# Altium integrated library NSC MiscPower.IntLib: 742 symbols (part 18 of 19)
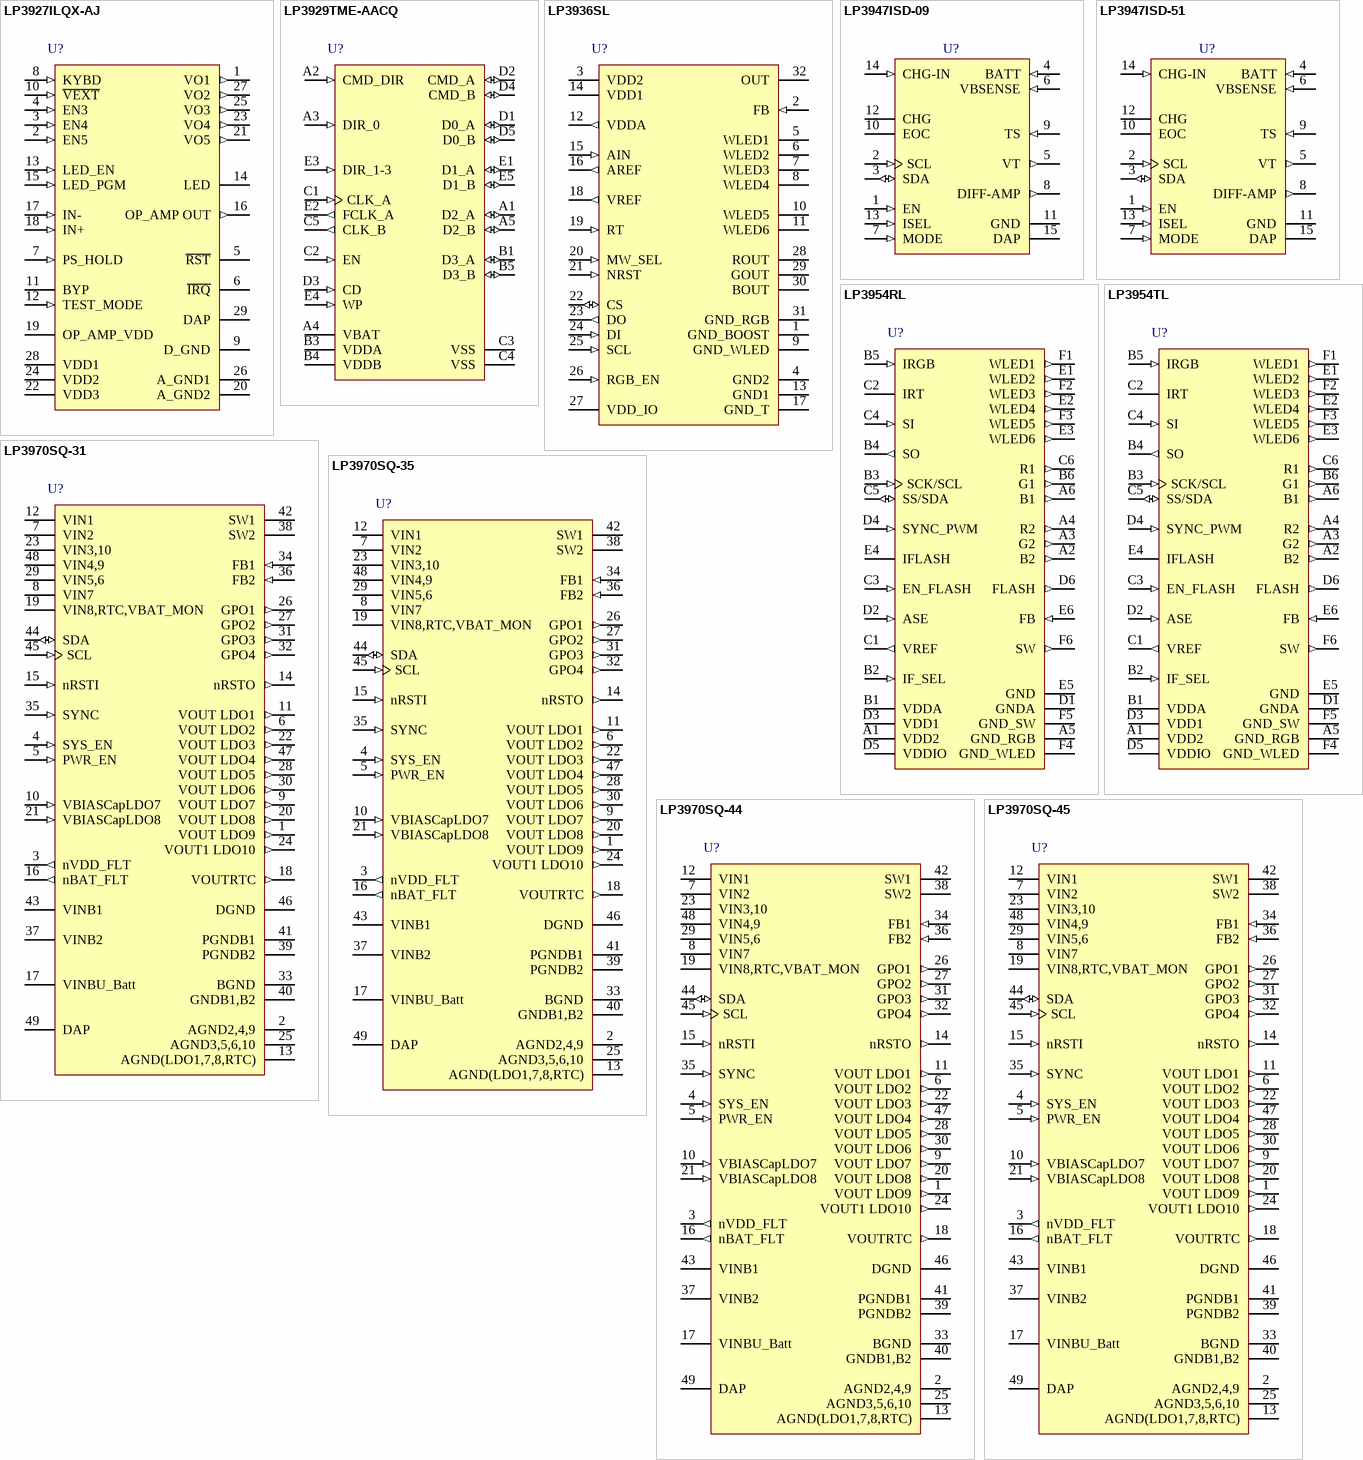
[diagram p42: symbols LP3927ILQX-AJ to LP3970SQ-45]

## LP3947ISD-09
designator U?
USB/AC Adaptor, Single Cell Li-Ion Battery Charger IC; PartNumber: LP3947ISD-09; Manufacturer: National Semiconductor; CompType: MiscPower; PackageTopMarking: NS*UZXYTT*L00061B; PowerWise: Y; Published: 4-Dec-2008; DatasheetVersion: Jul-2006; PackageVersion: revA, Jul-2004; PackageReference: SDA14B; Publisher: Altium Limited; PackageDescription: LLP, Plastic, Dual, 4 x 4 x 0.8mm Body, 14 Lead, 0.5mm Pitch, No Pullback; RoHS: Y; PinCount: 14; DigiKeyPartNumber: LP3947ISD-09CT-ND; ComponentLink1Description: LP3947 Datasheet; ComponentLink1URL: http://www.national.com/ds/LP/LP3947.pdf; ComponentLink2Description: LP3947 Web Page; ComponentLink2URL: http://www.national.com/pf/LP/LP3947.html; ComponentLink3Description: SDA14B Package Page; ComponentLink3URL: http://www.national.com/packaging/folders/sda14b.html
footprint SDA14B (SON, 14-Leads, Body 4x4mm, Pitch 0.5mm, NSC Recommended)
pins: 1 EN (in), 2 SCL (in), 3 SDA (io), 4 BATT (in), 5 VT (out), 6 VBSENSE (in), 7 MODE (in), 8 DIFF-AMP (out), 9 TS (in), 10 EOC (oc), 11 GND (power), 12 CHG (oc), 13 ISEL (in), 14 CHG-IN (in), 15 DAP (power)

## LP3947ISD-51
designator U?
USB/AC Adaptor, Single Cell Li-Ion Battery Charger IC; PartNumber: LP3947ISD-51; Manufacturer: National Semiconductor; CompType: MiscPower; PackageTopMarking: NS*UZXYTT*L00062B; PowerWise: Y; Published: 4-Dec-2008; DatasheetVersion: Jul-2006; PackageVersion: revA, Jul-2004; PackageReference: SDA14B; Publisher: Altium Limited; PackageDescription: LLP, Plastic, Dual, 4 x 4 x 0.8mm Body, 14 Lead, 0.5mm Pitch, No Pullback; RoHS: Y; PinCount: 14; DigiKeyPartNumber: LP3947ISD-51CT-ND; ComponentLink1Description: LP3947 Datasheet; ComponentLink1URL: http://www.national.com/ds/LP/LP3947.pdf; ComponentLink2Description: LP3947 Web Page; ComponentLink2URL: http://www.national.com/pf/LP/LP3947.html; ComponentLink3Description: SDA14B Package Page; ComponentLink3URL: http://www.national.com/packaging/folders/sda14b.html
footprint SDA14B (SON, 14-Leads, Body 4x4mm, Pitch 0.5mm, NSC Recommended)
pins: 1 EN (in), 2 SCL (in), 3 SDA (io), 4 BATT (in), 5 VT (out), 6 VBSENSE (in), 7 MODE (in), 8 DIFF-AMP (out), 9 TS (in), 10 EOC (oc), 11 GND (power), 12 CHG (oc), 13 ISEL (in), 14 CHG-IN (in), 15 DAP (power)

## LP3954RL
designator U?
Advanced Lighting Management Unit; PartNumber: LP3954RL; Manufacturer: National Semiconductor; CompType: MiscPower; PackageTopMarking: XYTT*I D63B; PowerWise: N; Published: 4-Dec-2008; DatasheetVersion: Jul-2007; PackageVersion: Aug-2007; PackageReference: RLA36AAA; Publisher: Altium Limited; PackageDescription: Micro SMDxt, 36 Bump (Large), 0.5mm Pitch; RoHS: Y; PinCount: 36; DigiKeyPartNumber: LP3954RL-ND; ComponentLink1Description: LP3954 Datasheet; ComponentLink1URL: http://www.national.com/ds/LP/LP3954.pdf; ComponentLink2Description: LP3954 Web Page; ComponentLink2URL: http://www.national.com/pf/LP/LP3954.html; ComponentLink3Description: RLA36AAA Package Page; ComponentLink3URL: http://www.national.com/packaging/folders/rla36aaa.html
footprint RLA36AAA (Micro SMD, 36-Leads, Body 3x3mm, Pitch 0.5mm, NSC Recommended)
pins: A1 VDD2 (power), A2 B2 (out), A3 G2 (out), A4 R2 (out), A5 GND_RGB (power), A6 B1 (out), B1 VDDA (power), B2 IF_SEL (in), B3 SCK/SCL (in), B4 SO (out), B5 IRGB (in), B6 G1 (out), C1 VREF (out), C2 IRT, C3 EN_FLASH (in), C4 SI (in), C5 SS/SDA (io), C6 R1 (out), D1 GNDA (power), D2 ASE (in), D3 VDD1 (power), D4 SYNC_PWM (in), D5 VDDIO (power), D6 FLASH (out), E1 WLED2 (out), E2 WLED4 (out), E3 WLED6 (out), E4 IFLASH, E5 GND (power), E6 FB (in), F1 WLED1 (out), F2 WLED3 (out), F3 WLED5 (out), F4 GND_WLED (power), F5 GND_SW (power), F6 SW (out)

## LP3954TL
designator U?
Advanced Lighting Management Unit; PartNumber: LP3954TL; Manufacturer: National Semiconductor; CompType: MiscPower; PackageTopMarking: XYTT*I D49B; PowerWise: Y; Published: 4-Dec-2008; DatasheetVersion: Jul-2007; PackageVersion: revC, Dec-2003; PackageReference: TLA36AAA; Publisher: Altium Limited; PackageDescription: Thin Micro SMD, 36 Bump (Large), 0.5mm Pitch; RoHS: Y; PinCount: 36; DigiKeyPartNumber: LP3954TLCT-ND; Code_JEDEC: MO-211-DK; ComponentLink1Description: LP3954 Datasheet; ComponentLink1URL: http://www.national.com/ds/LP/LP3954.pdf; ComponentLink2Description: LP3954 Web Page; ComponentLink2URL: http://www.national.com/pf/LP/LP3954.html; ComponentLink3Description: TLA36AAA Package Page; ComponentLink3URL: http://www.national.com/packaging/folders/tla36aaa.html
footprint TLA36AAA (Micro SMD, 36-Leads, Body 3x3mm, Pitch 0.5mm, NSC Recommended)
pins: A1 VDD2 (power), A2 B2 (out), A3 G2 (out), A4 R2 (out), A5 GND_RGB (power), A6 B1 (out), B1 VDDA (power), B2 IF_SEL (in), B3 SCK/SCL (in), B4 SO (out), B5 IRGB (in), B6 G1 (out), C1 VREF (out), C2 IRT, C3 EN_FLASH (in), C4 SI (in), C5 SS/SDA (io), C6 R1 (out), D1 GNDA (power), D2 ASE (in), D3 VDD1 (power), D4 SYNC_PWM (in), D5 VDDIO (power), D6 FLASH (out), E1 WLED2 (out), E2 WLED4 (out), E3 WLED6 (out), E4 IFLASH, E5 GND (power), E6 FB (in), F1 WLED1 (out), F2 WLED3 (out), F3 WLED5 (out), F4 GND_WLED (power), F5 GND_SW (power), F6 SW (out)

## LP3970SQ-31
designator U?
Power Management Unit for Advanced Application Processor; PartNumber: LP3970SQ-31; Manufacturer: National Semiconductor; CompType: MiscPower; PackageTopMarking: NS*UZXYTT*3970-31; PowerWise: Y; Published: 4-Dec-2008; DatasheetVersion: Aug-2007; PackageVersion: revA, May-2003; PackageReference: SQA48A; Publisher: Altium Limited; PackageDescription: LLP, Plastic, Quad, 7 x 7 x 0.8mm Body, 48 Lead, 0.5mm Pitch, No Pullback; RoHS: Y; PinCount: 48; DigiKeyPartNumber: LP3970SQ-31CT-ND; Code_JEDEC: MO-220-WKKD-2; ComponentLink1Description: LP3970 Datasheet; ComponentLink1URL: http://www.national.com/ds/LP/LP3970.pdf; ComponentLink2Description: LP3970 Web Page; ComponentLink2URL: http://www.national.com/pf/LP/LP3970.html; ComponentLink3Description: SQA48A Package Page; ComponentLink3URL: http://www.national.com/packaging/folders/sqa48a.html
footprint SQA48A (QFN, 48-Leads, Body 7x7mm, Pitch 0.5mm, NSC Recommended)
pins: 1 VOUT LDO9 (out), 2 AGND2,4,9 (power), 3 nVDD_FLT (out), 4 SYS_EN (in), 5 PWR_EN (in), 6 VOUT LDO2 (out), 7 VIN2 (power), 8 VIN7 (power), 9 VOUT LDO7 (out), 10 VBIASCapLDO7 (in), 11 VOUT LDO1 (out), 12 VIN1 (power), 13 AGND(LDO1,7,8,RTC) (power), 14 nRSTO (out), 15 nRSTI (in), 16 nBAT_FLT (out), 17 VINBU_Batt (power), 18 VOUTRTC (out), 19 VIN8,RTC,VBAT_MON (power), 20 VOUT LDO8 (out), 21 VBIASCapLDO8 (in), 22 VOUT LDO3 (out), 23 VIN3,10 (power), 24 VOUT1 LDO10 (out), 25 AGND3,5,6,10 (power), 26 GPO1 (out), 27 GPO2 (out), 28 VOUT LDO5 (out), 29 VIN5,6 (power), 30 VOUT LDO6 (out), 31 GPO3 (out), 32 GPO4 (out), 33 BGND (power), 34 FB1 (in), 35 SYNC (in), 36 FB2 (in), 37 VINB2 (power), 38 SW2 (power), 39 PGNDB2 (power), 40 GNDB1,B2 (power), 41 PGNDB1 (power), 42 SW1 (power), 43 VINB1 (power), 44 SDA (io), 45 SCL (in), 46 DGND (power), 47 VOUT LDO4 (out), 48 VIN4,9 (power), 49 DAP (power)

## LP3970SQ-35
designator U?
Power Management Unit for Advanced Application Processor; PartNumber: LP3970SQ-35; Manufacturer: National Semiconductor; CompType: MiscPower; PackageTopMarking: NS*UZXYTT*3970-35; PowerWise: Y; Published: 4-Dec-2008; DatasheetVersion: Aug-2007; PackageVersion: revA, May-2003; PackageReference: SQA48A; Publisher: Altium Limited; PackageDescription: LLP, Plastic, Quad, 7 x 7 x 0.8mm Body, 48 Lead, 0.5mm Pitch, No Pullback; RoHS: Y; PinCount: 48; DigiKeyPartNumber: LP3970SQ-35CT-ND; Code_JEDEC: MO-220-WKKD-2; ComponentLink1Description: LP3970 Datasheet; ComponentLink1URL: http://www.national.com/ds/LP/LP3970.pdf; ComponentLink2Description: LP3970 Web Page; ComponentLink2URL: http://www.national.com/pf/LP/LP3970.html; ComponentLink3Description: SQA48A Package Page; ComponentLink3URL: http://www.national.com/packaging/folders/sqa48a.html
footprint SQA48A (QFN, 48-Leads, Body 7x7mm, Pitch 0.5mm, NSC Recommended)
pins: 1 VOUT LDO9 (out), 2 AGND2,4,9 (power), 3 nVDD_FLT (out), 4 SYS_EN (in), 5 PWR_EN (in), 6 VOUT LDO2 (out), 7 VIN2 (power), 8 VIN7 (power), 9 VOUT LDO7 (out), 10 VBIASCapLDO7 (in), 11 VOUT LDO1 (out), 12 VIN1 (power), 13 AGND(LDO1,7,8,RTC) (power), 14 nRSTO (out), 15 nRSTI (in), 16 nBAT_FLT (out), 17 VINBU_Batt (power), 18 VOUTRTC (out), 19 VIN8,RTC,VBAT_MON (power), 20 VOUT LDO8 (out), 21 VBIASCapLDO8 (in), 22 VOUT LDO3 (out), 23 VIN3,10 (power), 24 VOUT1 LDO10 (out), 25 AGND3,5,6,10 (power), 26 GPO1 (out), 27 GPO2 (out), 28 VOUT LDO5 (out), 29 VIN5,6 (power), 30 VOUT LDO6 (out), 31 GPO3 (out), 32 GPO4 (out), 33 BGND (power), 34 FB1 (in), 35 SYNC (in), 36 FB2 (in), 37 VINB2 (power), 38 SW2 (power), 39 PGNDB2 (power), 40 GNDB1,B2 (power), 41 PGNDB1 (power), 42 SW1 (power), 43 VINB1 (power), 44 SDA (io), 45 SCL (in), 46 DGND (power), 47 VOUT LDO4 (out), 48 VIN4,9 (power), 49 DAP (power)

## LP3970SQ-44
designator U?
Power Management Unit for Advanced Application Processor; PartNumber: LP3970SQ-44; Manufacturer: National Semiconductor; CompType: MiscPower; PackageTopMarking: NS*UZXYTT*3970-44; PowerWise: Y; Published: 4-Dec-2008; DatasheetVersion: Aug-2007; PackageVersion: revA, May-2003; PackageReference: SQA48A; Publisher: Altium Limited; PackageDescription: LLP, Plastic, Quad, 7 x 7 x 0.8mm Body, 48 Lead, 0.5mm Pitch, No Pullback; RoHS: Y; PinCount: 48; DigiKeyPartNumber: LP3970SQ-44CT-ND; Code_JEDEC: MO-220-WKKD-2; ComponentLink1Description: LP3970 Datasheet; ComponentLink1URL: http://www.national.com/ds/LP/LP3970.pdf; ComponentLink2Description: LP3970 Web Page; ComponentLink2URL: http://www.national.com/pf/LP/LP3970.html; ComponentLink3Description: SQA48A Package Page; ComponentLink3URL: http://www.national.com/packaging/folders/sqa48a.html
footprint SQA48A (QFN, 48-Leads, Body 7x7mm, Pitch 0.5mm, NSC Recommended)
pins: 1 VOUT LDO9 (out), 2 AGND2,4,9 (power), 3 nVDD_FLT (out), 4 SYS_EN (in), 5 PWR_EN (in), 6 VOUT LDO2 (out), 7 VIN2 (power), 8 VIN7 (power), 9 VOUT LDO7 (out), 10 VBIASCapLDO7 (in), 11 VOUT LDO1 (out), 12 VIN1 (power), 13 AGND(LDO1,7,8,RTC) (power), 14 nRSTO (out), 15 nRSTI (in), 16 nBAT_FLT (out), 17 VINBU_Batt (power), 18 VOUTRTC (out), 19 VIN8,RTC,VBAT_MON (power), 20 VOUT LDO8 (out), 21 VBIASCapLDO8 (in), 22 VOUT LDO3 (out), 23 VIN3,10 (power), 24 VOUT1 LDO10 (out), 25 AGND3,5,6,10 (power), 26 GPO1 (out), 27 GPO2 (out), 28 VOUT LDO5 (out), 29 VIN5,6 (power), 30 VOUT LDO6 (out), 31 GPO3 (out), 32 GPO4 (out), 33 BGND (power), 34 FB1 (in), 35 SYNC (in), 36 FB2 (in), 37 VINB2 (power), 38 SW2 (power), 39 PGNDB2 (power), 40 GNDB1,B2 (power), 41 PGNDB1 (power), 42 SW1 (power), 43 VINB1 (power), 44 SDA (io), 45 SCL (in), 46 DGND (power), 47 VOUT LDO4 (out), 48 VIN4,9 (power), 49 DAP (power)

## LP3970SQ-45
designator U?
Power Management Unit for Advanced Application Processor; PartNumber: LP3970SQ-45; Manufacturer: National Semiconductor; CompType: MiscPower; PackageTopMarking: NS*UZXYTT*3970-45; PowerWise: Y; Published: 4-Dec-2008; DatasheetVersion: Aug-2007; PackageVersion: revA, May-2003; PackageReference: SQA48A; Publisher: Altium Limited; PackageDescription: LLP, Plastic, Quad, 7 x 7 x 0.8mm Body, 48 Lead, 0.5mm Pitch, No Pullback; RoHS: Y; PinCount: 48; DigiKeyPartNumber: LP3970SQ-45CT-ND; Code_JEDEC: MO-220-WKKD-2; ComponentLink1Description: LP3970 Datasheet; ComponentLink1URL: http://www.national.com/ds/LP/LP3970.pdf; ComponentLink2Description: LP3970 Web Page; ComponentLink2URL: http://www.national.com/pf/LP/LP3970.html; ComponentLink3Description: SQA48A Package Page; ComponentLink3URL: http://www.national.com/packaging/folders/sqa48a.html
footprint SQA48A (QFN, 48-Leads, Body 7x7mm, Pitch 0.5mm, NSC Recommended)
pins: 1 VOUT LDO9 (out), 2 AGND2,4,9 (power), 3 nVDD_FLT (out), 4 SYS_EN (in), 5 PWR_EN (in), 6 VOUT LDO2 (out), 7 VIN2 (power), 8 VIN7 (power), 9 VOUT LDO7 (out), 10 VBIASCapLDO7 (in), 11 VOUT LDO1 (out), 12 VIN1 (power), 13 AGND(LDO1,7,8,RTC) (power), 14 nRSTO (out), 15 nRSTI (in), 16 nBAT_FLT (out), 17 VINBU_Batt (power), 18 VOUTRTC (out), 19 VIN8,RTC,VBAT_MON (power), 20 VOUT LDO8 (out), 21 VBIASCapLDO8 (in), 22 VOUT LDO3 (out), 23 VIN3,10 (power), 24 VOUT1 LDO10 (out), 25 AGND3,5,6,10 (power), 26 GPO1 (out), 27 GPO2 (out), 28 VOUT LDO5 (out), 29 VIN5,6 (power), 30 VOUT LDO6 (out), 31 GPO3 (out), 32 GPO4 (out), 33 BGND (power), 34 FB1 (in), 35 SYNC (in), 36 FB2 (in), 37 VINB2 (power), 38 SW2 (power), 39 PGNDB2 (power), 40 GNDB1,B2 (power), 41 PGNDB1 (power), 42 SW1 (power), 43 VINB1 (power), 44 SDA (io), 45 SCL (in), 46 DGND (power), 47 VOUT LDO4 (out), 48 VIN4,9 (power), 49 DAP (power)

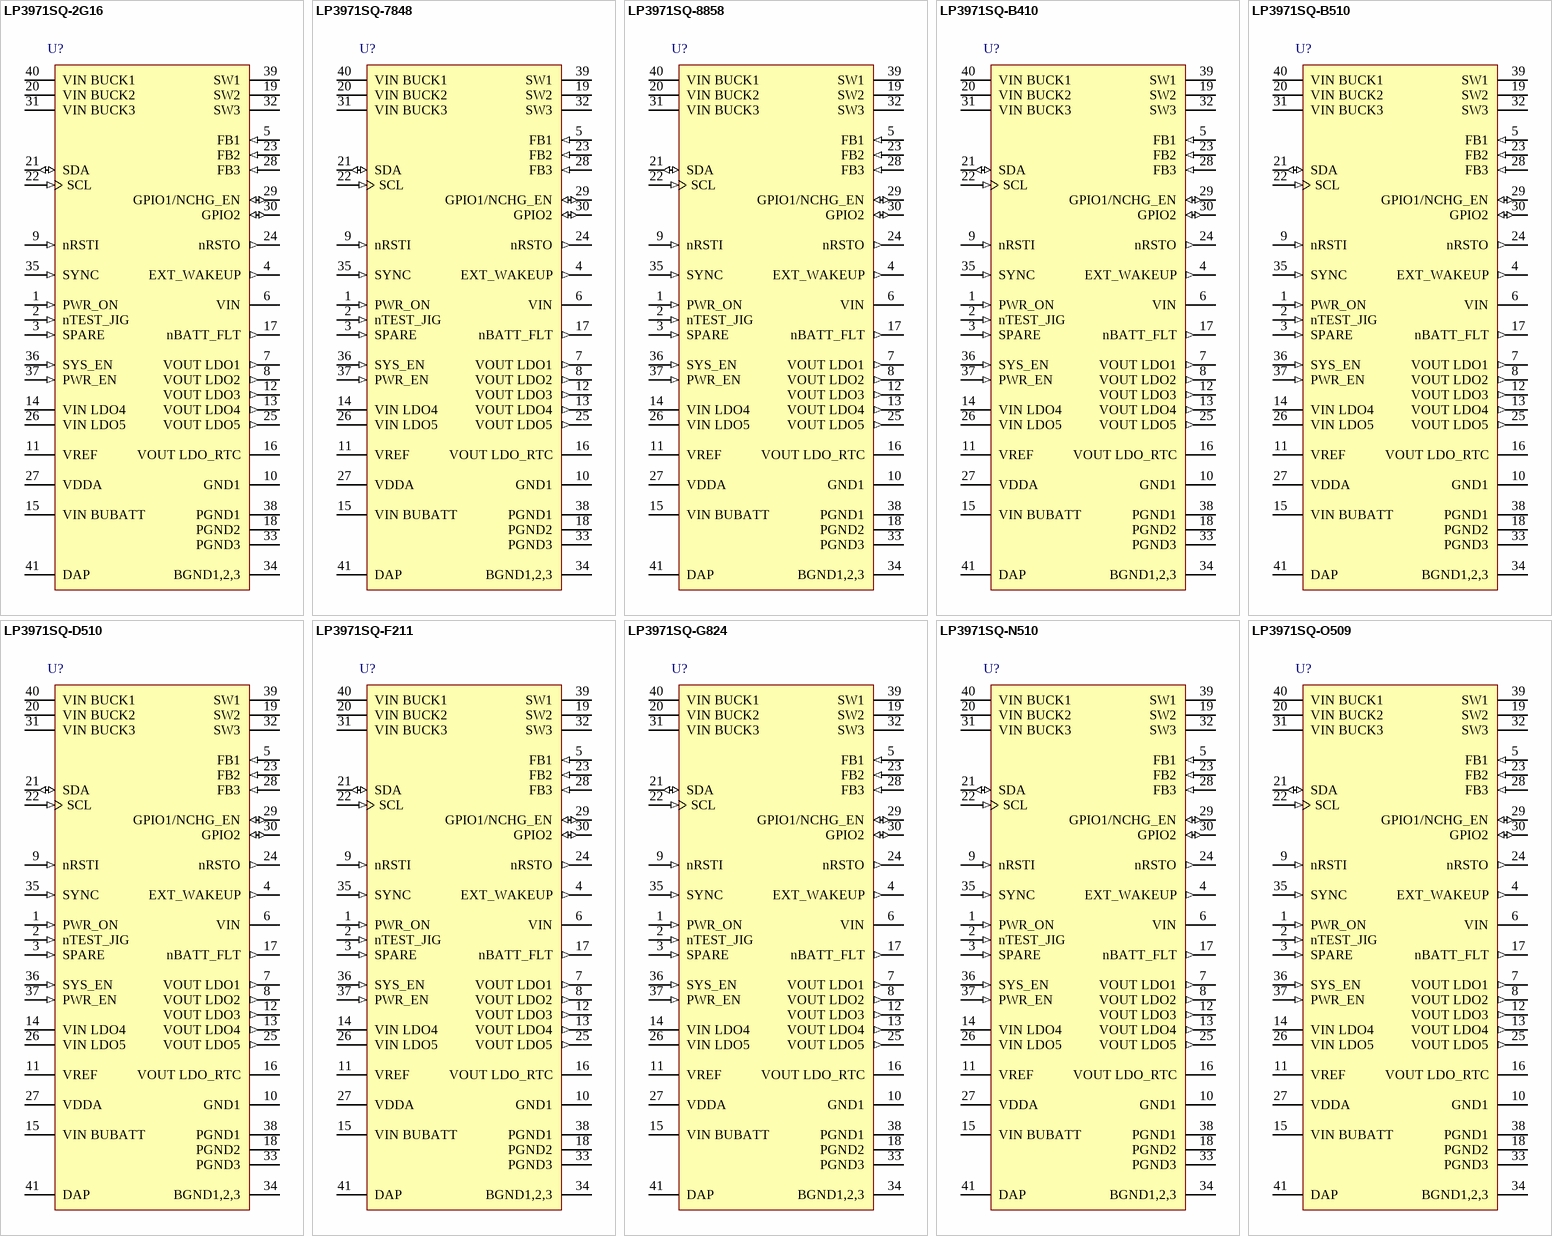
[diagram p22: symbols LP3971SQ-2G16 to LP3971SQ-O509]

## LP3971SQ-2G16
designator U?
Power Management Unit for Advanced Application Processor; PartNumber: LP3971SQ-2G16; Manufacturer: National Semiconductor; CompType: MiscPower; PackageTopMarking: NS*UZXYTT*71-2G16; PowerWise: N; Published: 4-Dec-2008; DatasheetVersion: Jul-2008; PackageVersion: revB, Jul-2004; PackageReference: SQF40A; Publisher: Altium Limited; PackageDescription: LLP, Quad, 5 x 5 x 0.8mm Body, 40 Lead, 0.4mm Pitch, 3.6 x 3.6mm Exposed Pad; RoHS: Y; PinCount: 40; ComponentLink1Description: LP3971 Datasheet; ComponentLink1URL: http://www.national.com/ds/LP/LP3971.pdf; ComponentLink2Description: LP3971 Web Page; ComponentLink2URL: http://www.national.com/pf/LP/LP3971.html; ComponentLink3Description: SQF40A Package Page; ComponentLink3URL: http://www.national.com/packaging/folders/sqf40a.html
footprint SQF40A (QFN, 40-Leads, Body 5x5 mm, Pitch 0.4mm, NSC Recommended)
pins: 1 PWR_ON (in), 2 nTEST_JIG (in), 3 SPARE (in), 4 EXT_WAKEUP (out), 5 FB1 (in), 6 VIN (power), 7 VOUT LDO1 (out), 8 VOUT LDO2 (out), 9 nRSTI (in), 10 GND1 (power), 11 VREF, 12 VOUT LDO3 (out), 13 VOUT LDO4 (out), 14 VIN LDO4 (power), 15 VIN BUBATT (power), 16 VOUT LDO_RTC (power), 17 nBATT_FLT (out), 18 PGND2 (power), 19 SW2 (power), 20 VIN BUCK2 (power), 21 SDA (io), 22 SCL (in), 23 FB2 (in), 24 nRSTO (out), 25 VOUT LDO5 (out), 26 VIN LDO5 (power), 27 VDDA (power), 28 FB3 (in), 29 GPIO1/NCHG_EN (io), 30 GPIO2 (io), 31 VIN BUCK3 (power), 32 SW3 (power), 33 PGND3 (power), 34 BGND1,2,3 (power), 35 SYNC (in), 36 SYS_EN (in), 37 PWR_EN (in), 38 PGND1 (power), 39 SW1 (power), 40 VIN BUCK1 (power), 41 DAP (power)

## LP3971SQ-7848
designator U?
Power Management Unit for Advanced Application Processor; PartNumber: LP3971SQ-7848; Manufacturer: National Semiconductor; CompType: MiscPower; PackageTopMarking: NS*UZXYTT*71-7848; PowerWise: N; Published: 4-Dec-2008; DatasheetVersion: Jul-2008; PackageVersion: revB, Jul-2004; PackageReference: SQF40A; Publisher: Altium Limited; PackageDescription: LLP, Quad, 5 x 5 x 0.8mm Body, 40 Lead, 0.4mm Pitch, 3.6 x 3.6mm Exposed Pad; RoHS: Y; PinCount: 40; ComponentLink1Description: LP3971 Datasheet; ComponentLink1URL: http://www.national.com/ds/LP/LP3971.pdf; ComponentLink2Description: LP3971 Web Page; ComponentLink2URL: http://www.national.com/pf/LP/LP3971.html; ComponentLink3Description: SQF40A Package Page; ComponentLink3URL: http://www.national.com/packaging/folders/sqf40a.html
footprint SQF40A (QFN, 40-Leads, Body 5x5 mm, Pitch 0.4mm, NSC Recommended)
pins: 1 PWR_ON (in), 2 nTEST_JIG (in), 3 SPARE (in), 4 EXT_WAKEUP (out), 5 FB1 (in), 6 VIN (power), 7 VOUT LDO1 (out), 8 VOUT LDO2 (out), 9 nRSTI (in), 10 GND1 (power), 11 VREF, 12 VOUT LDO3 (out), 13 VOUT LDO4 (out), 14 VIN LDO4 (power), 15 VIN BUBATT (power), 16 VOUT LDO_RTC (power), 17 nBATT_FLT (out), 18 PGND2 (power), 19 SW2 (power), 20 VIN BUCK2 (power), 21 SDA (io), 22 SCL (in), 23 FB2 (in), 24 nRSTO (out), 25 VOUT LDO5 (out), 26 VIN LDO5 (power), 27 VDDA (power), 28 FB3 (in), 29 GPIO1/NCHG_EN (io), 30 GPIO2 (io), 31 VIN BUCK3 (power), 32 SW3 (power), 33 PGND3 (power), 34 BGND1,2,3 (power), 35 SYNC (in), 36 SYS_EN (in), 37 PWR_EN (in), 38 PGND1 (power), 39 SW1 (power), 40 VIN BUCK1 (power), 41 DAP (power)

## LP3971SQ-8858
designator U?
Power Management Unit for Advanced Application Processor; PartNumber: LP3971SQ-8858; Manufacturer: National Semiconductor; CompType: MiscPower; PackageTopMarking: NS*UZXYTT*71-8858; PowerWise: N; Published: 4-Dec-2008; DatasheetVersion: Jul-2008; PackageVersion: revB, Jul-2004; PackageReference: SQF40A; Publisher: Altium Limited; PackageDescription: LLP, Quad, 5 x 5 x 0.8mm Body, 40 Lead, 0.4mm Pitch, 3.6 x 3.6mm Exposed Pad; RoHS: Y; PinCount: 40; ComponentLink1Description: LP3971 Datasheet; ComponentLink1URL: http://www.national.com/ds/LP/LP3971.pdf; ComponentLink2Description: LP3971 Web Page; ComponentLink2URL: http://www.national.com/pf/LP/LP3971.html; ComponentLink3Description: SQF40A Package Page; ComponentLink3URL: http://www.national.com/packaging/folders/sqf40a.html
footprint SQF40A (QFN, 40-Leads, Body 5x5 mm, Pitch 0.4mm, NSC Recommended)
pins: 1 PWR_ON (in), 2 nTEST_JIG (in), 3 SPARE (in), 4 EXT_WAKEUP (out), 5 FB1 (in), 6 VIN (power), 7 VOUT LDO1 (out), 8 VOUT LDO2 (out), 9 nRSTI (in), 10 GND1 (power), 11 VREF, 12 VOUT LDO3 (out), 13 VOUT LDO4 (out), 14 VIN LDO4 (power), 15 VIN BUBATT (power), 16 VOUT LDO_RTC (power), 17 nBATT_FLT (out), 18 PGND2 (power), 19 SW2 (power), 20 VIN BUCK2 (power), 21 SDA (io), 22 SCL (in), 23 FB2 (in), 24 nRSTO (out), 25 VOUT LDO5 (out), 26 VIN LDO5 (power), 27 VDDA (power), 28 FB3 (in), 29 GPIO1/NCHG_EN (io), 30 GPIO2 (io), 31 VIN BUCK3 (power), 32 SW3 (power), 33 PGND3 (power), 34 BGND1,2,3 (power), 35 SYNC (in), 36 SYS_EN (in), 37 PWR_EN (in), 38 PGND1 (power), 39 SW1 (power), 40 VIN BUCK1 (power), 41 DAP (power)

## LP3971SQ-B410
designator U?
Power Management Unit for Advanced Application Processor; PartNumber: LP3971SQ-B410; Manufacturer: National Semiconductor; CompType: MiscPower; PackageTopMarking: NS*UZXYTT*71-B410; PowerWise: Y; Published: 4-Dec-2008; DatasheetVersion: Jul-2008; PackageVersion: revB, Jul-2004; PackageReference: SQF40A; Publisher: Altium Limited; PackageDescription: LLP, Quad, 5 x 5 x 0.8mm Body, 40 Lead, 0.4mm Pitch, 3.6 x 3.6mm Exposed Pad; RoHS: Y; PinCount: 40; DigiKeyPartNumber: LP3971SQ-B410EV-ND; ComponentLink1Description: LP3971 Datasheet; ComponentLink1URL: http://www.national.com/ds/LP/LP3971.pdf; ComponentLink2Description: LP3971 Web Page; ComponentLink2URL: http://www.national.com/pf/LP/LP3971.html; ComponentLink3Description: SQF40A Package Page; ComponentLink3URL: http://www.national.com/packaging/folders/sqf40a.html
footprint SQF40A (QFN, 40-Leads, Body 5x5 mm, Pitch 0.4mm, NSC Recommended)
pins: 1 PWR_ON (in), 2 nTEST_JIG (in), 3 SPARE (in), 4 EXT_WAKEUP (out), 5 FB1 (in), 6 VIN (power), 7 VOUT LDO1 (out), 8 VOUT LDO2 (out), 9 nRSTI (in), 10 GND1 (power), 11 VREF, 12 VOUT LDO3 (out), 13 VOUT LDO4 (out), 14 VIN LDO4 (power), 15 VIN BUBATT (power), 16 VOUT LDO_RTC (power), 17 nBATT_FLT (out), 18 PGND2 (power), 19 SW2 (power), 20 VIN BUCK2 (power), 21 SDA (io), 22 SCL (in), 23 FB2 (in), 24 nRSTO (out), 25 VOUT LDO5 (out), 26 VIN LDO5 (power), 27 VDDA (power), 28 FB3 (in), 29 GPIO1/NCHG_EN (io), 30 GPIO2 (io), 31 VIN BUCK3 (power), 32 SW3 (power), 33 PGND3 (power), 34 BGND1,2,3 (power), 35 SYNC (in), 36 SYS_EN (in), 37 PWR_EN (in), 38 PGND1 (power), 39 SW1 (power), 40 VIN BUCK1 (power), 41 DAP (power)

## LP3971SQ-B510
designator U?
Power Management Unit for Advanced Application Processor; PartNumber: LP3971SQ-B510; Manufacturer: National Semiconductor; CompType: MiscPower; PackageTopMarking: NS*UZXYTT*71-B510; PowerWise: N; Published: 4-Dec-2008; DatasheetVersion: Jul-2008; PackageVersion: revB, Jul-2004; PackageReference: SQF40A; Publisher: Altium Limited; PackageDescription: LLP, Quad, 5 x 5 x 0.8mm Body, 40 Lead, 0.4mm Pitch, 3.6 x 3.6mm Exposed Pad; RoHS: Y; PinCount: 40; DigiKeyPartNumber: LP3971SQ-B510CT-ND; ComponentLink1Description: LP3971 Datasheet; ComponentLink1URL: http://www.national.com/ds/LP/LP3971.pdf; ComponentLink2Description: LP3971 Web Page; ComponentLink2URL: http://www.national.com/pf/LP/LP3971.html; ComponentLink3Description: SQF40A Package Page; ComponentLink3URL: http://www.national.com/packaging/folders/sqf40a.html
footprint SQF40A (QFN, 40-Leads, Body 5x5 mm, Pitch 0.4mm, NSC Recommended)
pins: 1 PWR_ON (in), 2 nTEST_JIG (in), 3 SPARE (in), 4 EXT_WAKEUP (out), 5 FB1 (in), 6 VIN (power), 7 VOUT LDO1 (out), 8 VOUT LDO2 (out), 9 nRSTI (in), 10 GND1 (power), 11 VREF, 12 VOUT LDO3 (out), 13 VOUT LDO4 (out), 14 VIN LDO4 (power), 15 VIN BUBATT (power), 16 VOUT LDO_RTC (power), 17 nBATT_FLT (out), 18 PGND2 (power), 19 SW2 (power), 20 VIN BUCK2 (power), 21 SDA (io), 22 SCL (in), 23 FB2 (in), 24 nRSTO (out), 25 VOUT LDO5 (out), 26 VIN LDO5 (power), 27 VDDA (power), 28 FB3 (in), 29 GPIO1/NCHG_EN (io), 30 GPIO2 (io), 31 VIN BUCK3 (power), 32 SW3 (power), 33 PGND3 (power), 34 BGND1,2,3 (power), 35 SYNC (in), 36 SYS_EN (in), 37 PWR_EN (in), 38 PGND1 (power), 39 SW1 (power), 40 VIN BUCK1 (power), 41 DAP (power)

## LP3971SQ-D510
designator U?
Power Management Unit for Advanced Application Processor; PartNumber: LP3971SQ-D510; Manufacturer: National Semiconductor; CompType: MiscPower; PackageTopMarking: NS*UZXYTT*71-D510; PowerWise: N; Published: 4-Dec-2008; DatasheetVersion: Jul-2008; PackageVersion: revB, Jul-2004; PackageReference: SQF40A; Publisher: Altium Limited; PackageDescription: LLP, Quad, 5 x 5 x 0.8mm Body, 40 Lead, 0.4mm Pitch, 3.6 x 3.6mm Exposed Pad; RoHS: Y; PinCount: 40; DigiKeyPartNumber: LP3971SQ-D510CT-ND; ComponentLink1Description: LP3971 Datasheet; ComponentLink1URL: http://www.national.com/ds/LP/LP3971.pdf; ComponentLink2Description: LP3971 Web Page; ComponentLink2URL: http://www.national.com/pf/LP/LP3971.html; ComponentLink3Description: SQF40A Package Page; ComponentLink3URL: http://www.national.com/packaging/folders/sqf40a.html
footprint SQF40A (QFN, 40-Leads, Body 5x5 mm, Pitch 0.4mm, NSC Recommended)
pins: 1 PWR_ON (in), 2 nTEST_JIG (in), 3 SPARE (in), 4 EXT_WAKEUP (out), 5 FB1 (in), 6 VIN (power), 7 VOUT LDO1 (out), 8 VOUT LDO2 (out), 9 nRSTI (in), 10 GND1 (power), 11 VREF, 12 VOUT LDO3 (out), 13 VOUT LDO4 (out), 14 VIN LDO4 (power), 15 VIN BUBATT (power), 16 VOUT LDO_RTC (power), 17 nBATT_FLT (out), 18 PGND2 (power), 19 SW2 (power), 20 VIN BUCK2 (power), 21 SDA (io), 22 SCL (in), 23 FB2 (in), 24 nRSTO (out), 25 VOUT LDO5 (out), 26 VIN LDO5 (power), 27 VDDA (power), 28 FB3 (in), 29 GPIO1/NCHG_EN (io), 30 GPIO2 (io), 31 VIN BUCK3 (power), 32 SW3 (power), 33 PGND3 (power), 34 BGND1,2,3 (power), 35 SYNC (in), 36 SYS_EN (in), 37 PWR_EN (in), 38 PGND1 (power), 39 SW1 (power), 40 VIN BUCK1 (power), 41 DAP (power)

## LP3971SQ-F211
designator U?
Power Management Unit for Advanced Application Processor; PartNumber: LP3971SQ-F211; Manufacturer: National Semiconductor; CompType: MiscPower; PackageTopMarking: NS*UZXYTT*71-F211; PowerWise: N; Published: 4-Dec-2008; DatasheetVersion: Jul-2008; PackageVersion: revB, Jul-2004; PackageReference: SQF40A; Publisher: Altium Limited; PackageDescription: LLP, Quad, 5 x 5 x 0.8mm Body, 40 Lead, 0.4mm Pitch, 3.6 x 3.6mm Exposed Pad; RoHS: Y; PinCount: 40; DigiKeyPartNumber: LP3971SQ-F211CT-ND; ComponentLink1Description: LP3971 Datasheet; ComponentLink1URL: http://www.national.com/ds/LP/LP3971.pdf; ComponentLink2Description: LP3971 Web Page; ComponentLink2URL: http://www.national.com/pf/LP/LP3971.html; ComponentLink3Description: SQF40A Package Page; ComponentLink3URL: http://www.national.com/packaging/folders/sqf40a.html
footprint SQF40A (QFN, 40-Leads, Body 5x5 mm, Pitch 0.4mm, NSC Recommended)
pins: 1 PWR_ON (in), 2 nTEST_JIG (in), 3 SPARE (in), 4 EXT_WAKEUP (out), 5 FB1 (in), 6 VIN (power), 7 VOUT LDO1 (out), 8 VOUT LDO2 (out), 9 nRSTI (in), 10 GND1 (power), 11 VREF, 12 VOUT LDO3 (out), 13 VOUT LDO4 (out), 14 VIN LDO4 (power), 15 VIN BUBATT (power), 16 VOUT LDO_RTC (power), 17 nBATT_FLT (out), 18 PGND2 (power), 19 SW2 (power), 20 VIN BUCK2 (power), 21 SDA (io), 22 SCL (in), 23 FB2 (in), 24 nRSTO (out), 25 VOUT LDO5 (out), 26 VIN LDO5 (power), 27 VDDA (power), 28 FB3 (in), 29 GPIO1/NCHG_EN (io), 30 GPIO2 (io), 31 VIN BUCK3 (power), 32 SW3 (power), 33 PGND3 (power), 34 BGND1,2,3 (power), 35 SYNC (in), 36 SYS_EN (in), 37 PWR_EN (in), 38 PGND1 (power), 39 SW1 (power), 40 VIN BUCK1 (power), 41 DAP (power)

## LP3971SQ-G824
designator U?
Power Management Unit for Advanced Application Processor; PartNumber: LP3971SQ-G824; Manufacturer: National Semiconductor; CompType: MiscPower; PackageTopMarking: NS*UZXYTT*71-G824; PowerWise: N; Published: 4-Dec-2008; DatasheetVersion: Jul-2008; PackageVersion: revB, Jul-2004; PackageReference: SQF40A; Publisher: Altium Limited; PackageDescription: LLP, Quad, 5 x 5 x 0.8mm Body, 40 Lead, 0.4mm Pitch, 3.6 x 3.6mm Exposed Pad; RoHS: Y; PinCount: 40; DigiKeyPartNumber: LP3971SQ-G824CT-ND; ComponentLink1Description: LP3971 Datasheet; ComponentLink1URL: http://www.national.com/ds/LP/LP3971.pdf; ComponentLink2Description: LP3971 Web Page; ComponentLink2URL: http://www.national.com/pf/LP/LP3971.html; ComponentLink3Description: SQF40A Package Page; ComponentLink3URL: http://www.national.com/packaging/folders/sqf40a.html
footprint SQF40A (QFN, 40-Leads, Body 5x5 mm, Pitch 0.4mm, NSC Recommended)
pins: 1 PWR_ON (in), 2 nTEST_JIG (in), 3 SPARE (in), 4 EXT_WAKEUP (out), 5 FB1 (in), 6 VIN (power), 7 VOUT LDO1 (out), 8 VOUT LDO2 (out), 9 nRSTI (in), 10 GND1 (power), 11 VREF, 12 VOUT LDO3 (out), 13 VOUT LDO4 (out), 14 VIN LDO4 (power), 15 VIN BUBATT (power), 16 VOUT LDO_RTC (power), 17 nBATT_FLT (out), 18 PGND2 (power), 19 SW2 (power), 20 VIN BUCK2 (power), 21 SDA (io), 22 SCL (in), 23 FB2 (in), 24 nRSTO (out), 25 VOUT LDO5 (out), 26 VIN LDO5 (power), 27 VDDA (power), 28 FB3 (in), 29 GPIO1/NCHG_EN (io), 30 GPIO2 (io), 31 VIN BUCK3 (power), 32 SW3 (power), 33 PGND3 (power), 34 BGND1,2,3 (power), 35 SYNC (in), 36 SYS_EN (in), 37 PWR_EN (in), 38 PGND1 (power), 39 SW1 (power), 40 VIN BUCK1 (power), 41 DAP (power)

## LP3971SQ-N510
designator U?
Power Management Unit for Advanced Application Processor; PartNumber: LP3971SQ-N510; Manufacturer: National Semiconductor; CompType: MiscPower; PackageTopMarking: NS*UZXYTT*71-N510; PowerWise: N; Published: 4-Dec-2008; DatasheetVersion: Jul-2008; PackageVersion: revB, Jul-2004; PackageReference: SQF40A; Publisher: Altium Limited; PackageDescription: LLP, Quad, 5 x 5 x 0.8mm Body, 40 Lead, 0.4mm Pitch, 3.6 x 3.6mm Exposed Pad; RoHS: Y; PinCount: 40; DigiKeyPartNumber: LP3971SQ-N510CT-ND; ComponentLink1Description: LP3971 Datasheet; ComponentLink1URL: http://www.national.com/ds/LP/LP3971.pdf; ComponentLink2Description: LP3971 Web Page; ComponentLink2URL: http://www.national.com/pf/LP/LP3971.html; ComponentLink3Description: SQF40A Package Page; ComponentLink3URL: http://www.national.com/packaging/folders/sqf40a.html
footprint SQF40A (QFN, 40-Leads, Body 5x5 mm, Pitch 0.4mm, NSC Recommended)
pins: 1 PWR_ON (in), 2 nTEST_JIG (in), 3 SPARE (in), 4 EXT_WAKEUP (out), 5 FB1 (in), 6 VIN (power), 7 VOUT LDO1 (out), 8 VOUT LDO2 (out), 9 nRSTI (in), 10 GND1 (power), 11 VREF, 12 VOUT LDO3 (out), 13 VOUT LDO4 (out), 14 VIN LDO4 (power), 15 VIN BUBATT (power), 16 VOUT LDO_RTC (power), 17 nBATT_FLT (out), 18 PGND2 (power), 19 SW2 (power), 20 VIN BUCK2 (power), 21 SDA (io), 22 SCL (in), 23 FB2 (in), 24 nRSTO (out), 25 VOUT LDO5 (out), 26 VIN LDO5 (power), 27 VDDA (power), 28 FB3 (in), 29 GPIO1/NCHG_EN (io), 30 GPIO2 (io), 31 VIN BUCK3 (power), 32 SW3 (power), 33 PGND3 (power), 34 BGND1,2,3 (power), 35 SYNC (in), 36 SYS_EN (in), 37 PWR_EN (in), 38 PGND1 (power), 39 SW1 (power), 40 VIN BUCK1 (power), 41 DAP (power)

## LP3971SQ-O509
designator U?
Power Management Unit for Advanced Application Processor; PartNumber: LP3971SQ-O509; Manufacturer: National Semiconductor; CompType: MiscPower; PackageTopMarking: NS*UZXYTT*71-O509; PowerWise: N; Published: 4-Dec-2008; DatasheetVersion: Jul-2008; PackageVersion: revB, Jul-2004; PackageReference: SQF40A; Publisher: Altium Limited; PackageDescription: LLP, Quad, 5 x 5 x 0.8mm Body, 40 Lead, 0.4mm Pitch, 3.6 x 3.6mm Exposed Pad; RoHS: Y; PinCount: 40; ComponentLink1Description: LP3971 Datasheet; ComponentLink1URL: http://www.national.com/ds/LP/LP3971.pdf; ComponentLink2Description: LP3971 Web Page; ComponentLink2URL: http://www.national.com/pf/LP/LP3971.html; ComponentLink3Description: SQF40A Package Page; ComponentLink3URL: http://www.national.com/packaging/folders/sqf40a.html
footprint SQF40A (QFN, 40-Leads, Body 5x5 mm, Pitch 0.4mm, NSC Recommended)
pins: 1 PWR_ON (in), 2 nTEST_JIG (in), 3 SPARE (in), 4 EXT_WAKEUP (out), 5 FB1 (in), 6 VIN (power), 7 VOUT LDO1 (out), 8 VOUT LDO2 (out), 9 nRSTI (in), 10 GND1 (power), 11 VREF, 12 VOUT LDO3 (out), 13 VOUT LDO4 (out), 14 VIN LDO4 (power), 15 VIN BUBATT (power), 16 VOUT LDO_RTC (power), 17 nBATT_FLT (out), 18 PGND2 (power), 19 SW2 (power), 20 VIN BUCK2 (power), 21 SDA (io), 22 SCL (in), 23 FB2 (in), 24 nRSTO (out), 25 VOUT LDO5 (out), 26 VIN LDO5 (power), 27 VDDA (power), 28 FB3 (in), 29 GPIO1/NCHG_EN (io), 30 GPIO2 (io), 31 VIN BUCK3 (power), 32 SW3 (power), 33 PGND3 (power), 34 BGND1,2,3 (power), 35 SYNC (in), 36 SYS_EN (in), 37 PWR_EN (in), 38 PGND1 (power), 39 SW1 (power), 40 VIN BUCK1 (power), 41 DAP (power)

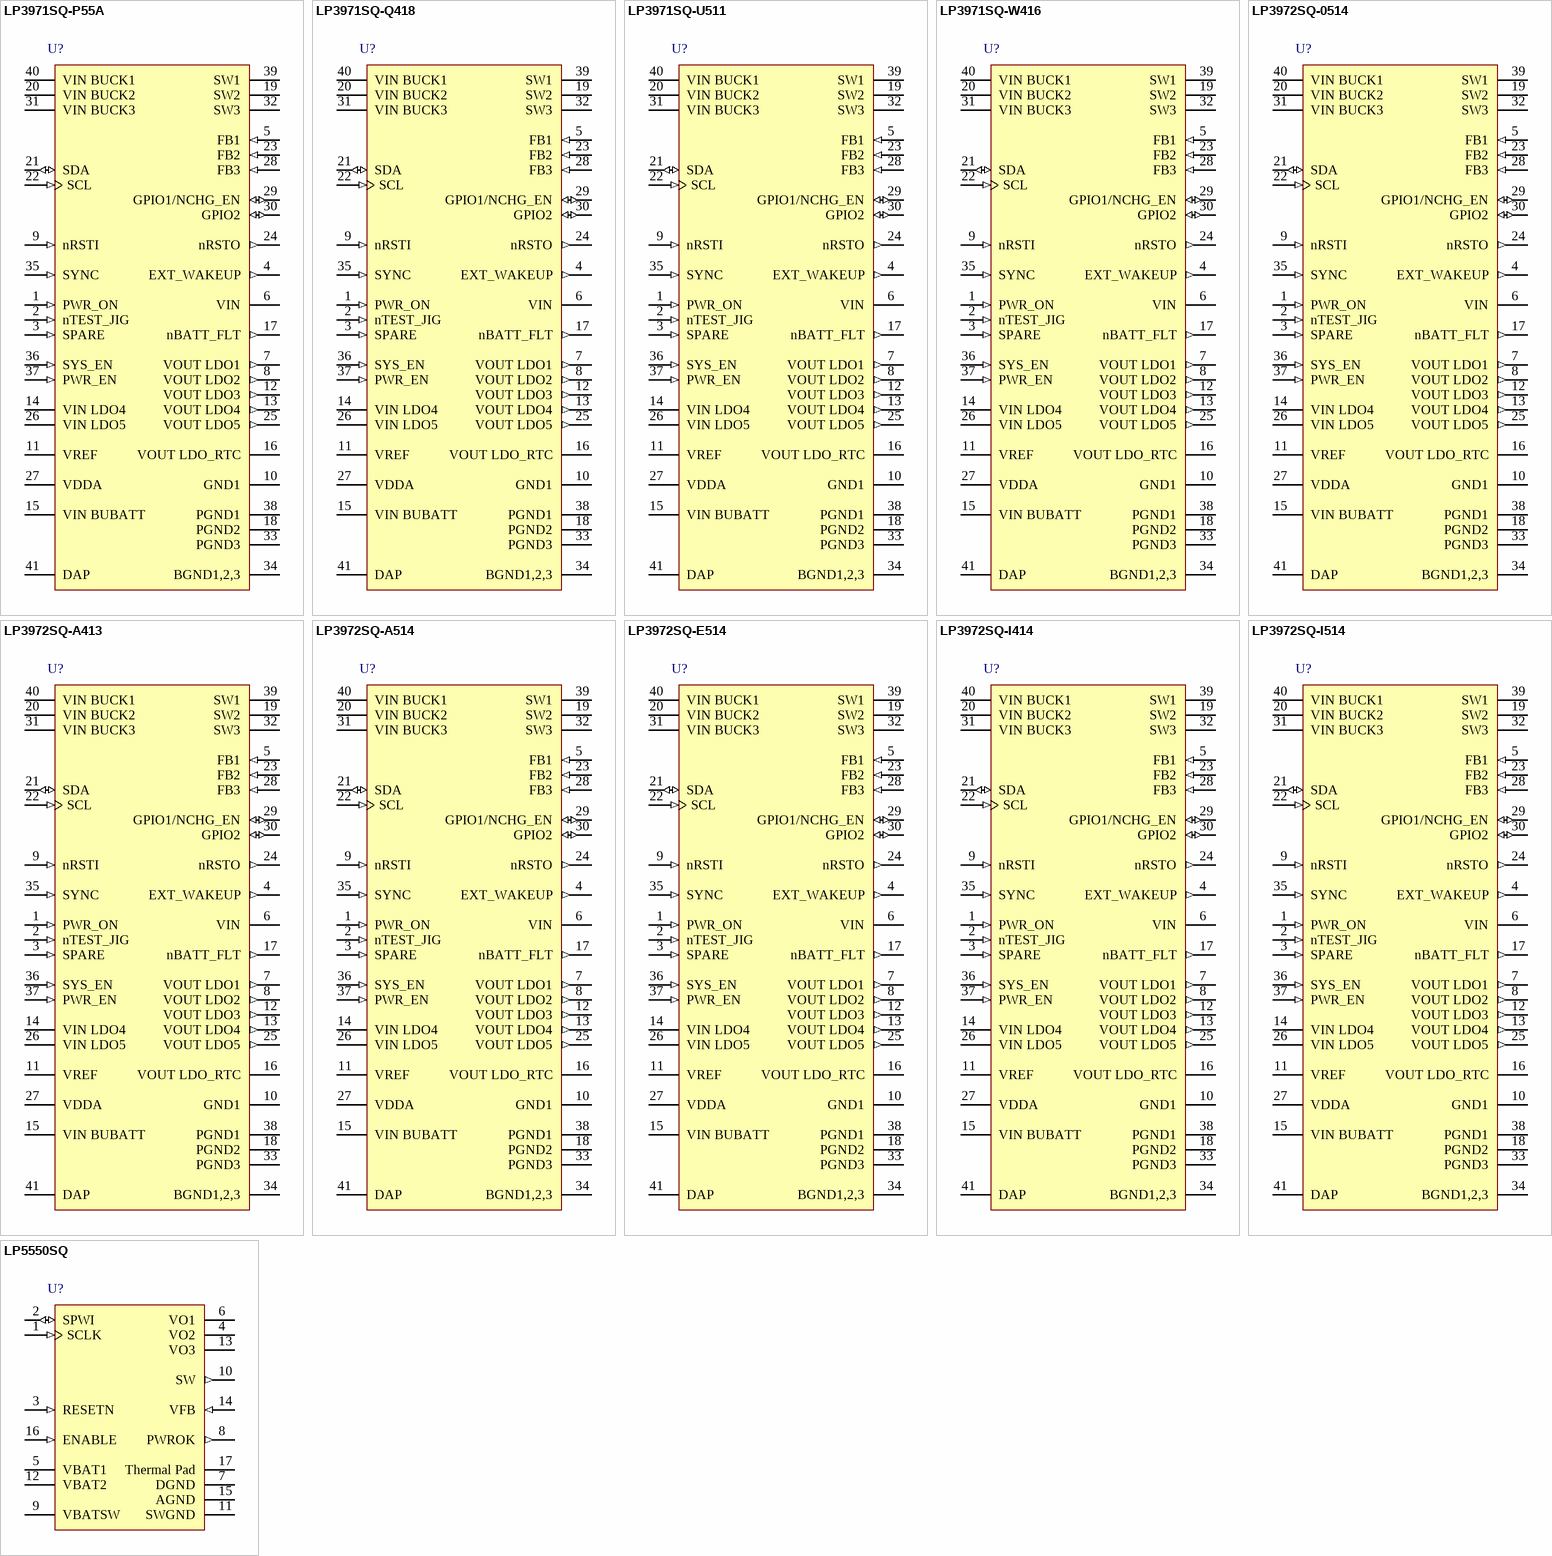
[diagram p23: symbols LP3971SQ-P55A to LP5550SQ]

## LP3971SQ-P55A
designator U?
Power Management Unit for Advanced Application Processor; PartNumber: LP3971SQ-P55A; Manufacturer: National Semiconductor; CompType: MiscPower; PackageTopMarking: NS*UZXYTT*71-P55A; PowerWise: N; Published: 4-Dec-2008; DatasheetVersion: Jul-2008; PackageVersion: revB, Jul-2004; PackageReference: SQF40A; Publisher: Altium Limited; PackageDescription: LLP, Quad, 5 x 5 x 0.8mm Body, 40 Lead, 0.4mm Pitch, 3.6 x 3.6mm Exposed Pad; RoHS: Y; PinCount: 40; DigiKeyPartNumber: LP3971SQ-P55ACT-ND; ComponentLink1Description: LP3971 Datasheet; ComponentLink1URL: http://www.national.com/ds/LP/LP3971.pdf; ComponentLink2Description: LP3971 Web Page; ComponentLink2URL: http://www.national.com/pf/LP/LP3971.html; ComponentLink3Description: SQF40A Package Page; ComponentLink3URL: http://www.national.com/packaging/folders/sqf40a.html
footprint SQF40A (QFN, 40-Leads, Body 5x5 mm, Pitch 0.4mm, NSC Recommended)
pins: 1 PWR_ON (in), 2 nTEST_JIG (in), 3 SPARE (in), 4 EXT_WAKEUP (out), 5 FB1 (in), 6 VIN (power), 7 VOUT LDO1 (out), 8 VOUT LDO2 (out), 9 nRSTI (in), 10 GND1 (power), 11 VREF, 12 VOUT LDO3 (out), 13 VOUT LDO4 (out), 14 VIN LDO4 (power), 15 VIN BUBATT (power), 16 VOUT LDO_RTC (power), 17 nBATT_FLT (out), 18 PGND2 (power), 19 SW2 (power), 20 VIN BUCK2 (power), 21 SDA (io), 22 SCL (in), 23 FB2 (in), 24 nRSTO (out), 25 VOUT LDO5 (out), 26 VIN LDO5 (power), 27 VDDA (power), 28 FB3 (in), 29 GPIO1/NCHG_EN (io), 30 GPIO2 (io), 31 VIN BUCK3 (power), 32 SW3 (power), 33 PGND3 (power), 34 BGND1,2,3 (power), 35 SYNC (in), 36 SYS_EN (in), 37 PWR_EN (in), 38 PGND1 (power), 39 SW1 (power), 40 VIN BUCK1 (power), 41 DAP (power)

## LP3971SQ-Q418
designator U?
Power Management Unit for Advanced Application Processor; PartNumber: LP3971SQ-Q418; Manufacturer: National Semiconductor; CompType: MiscPower; PackageTopMarking: NS*UZXYTT*71-Q418; PowerWise: N; Published: 4-Dec-2008; DatasheetVersion: Jul-2008; PackageVersion: revB, Jul-2004; PackageReference: SQF40A; Publisher: Altium Limited; PackageDescription: LLP, Quad, 5 x 5 x 0.8mm Body, 40 Lead, 0.4mm Pitch, 3.6 x 3.6mm Exposed Pad; RoHS: Y; PinCount: 40; DigiKeyPartNumber: LP3971SQ-Q418CT-ND; ComponentLink1Description: LP3971 Datasheet; ComponentLink1URL: http://www.national.com/ds/LP/LP3971.pdf; ComponentLink2Description: LP3971 Web Page; ComponentLink2URL: http://www.national.com/pf/LP/LP3971.html; ComponentLink3Description: SQF40A Package Page; ComponentLink3URL: http://www.national.com/packaging/folders/sqf40a.html
footprint SQF40A (QFN, 40-Leads, Body 5x5 mm, Pitch 0.4mm, NSC Recommended)
pins: 1 PWR_ON (in), 2 nTEST_JIG (in), 3 SPARE (in), 4 EXT_WAKEUP (out), 5 FB1 (in), 6 VIN (power), 7 VOUT LDO1 (out), 8 VOUT LDO2 (out), 9 nRSTI (in), 10 GND1 (power), 11 VREF, 12 VOUT LDO3 (out), 13 VOUT LDO4 (out), 14 VIN LDO4 (power), 15 VIN BUBATT (power), 16 VOUT LDO_RTC (power), 17 nBATT_FLT (out), 18 PGND2 (power), 19 SW2 (power), 20 VIN BUCK2 (power), 21 SDA (io), 22 SCL (in), 23 FB2 (in), 24 nRSTO (out), 25 VOUT LDO5 (out), 26 VIN LDO5 (power), 27 VDDA (power), 28 FB3 (in), 29 GPIO1/NCHG_EN (io), 30 GPIO2 (io), 31 VIN BUCK3 (power), 32 SW3 (power), 33 PGND3 (power), 34 BGND1,2,3 (power), 35 SYNC (in), 36 SYS_EN (in), 37 PWR_EN (in), 38 PGND1 (power), 39 SW1 (power), 40 VIN BUCK1 (power), 41 DAP (power)

## LP3971SQ-U511
designator U?
Power Management Unit for Advanced Application Processor; PartNumber: LP3971SQ-U511; Manufacturer: National Semiconductor; CompType: MiscPower; PackageTopMarking: NS*UZXYTT*71-U511; PowerWise: N; Published: 4-Dec-2008; DatasheetVersion: Jul-2008; PackageVersion: revB, Jul-2004; PackageReference: SQF40A; Publisher: Altium Limited; PackageDescription: LLP, Quad, 5 x 5 x 0.8mm Body, 40 Lead, 0.4mm Pitch, 3.6 x 3.6mm Exposed Pad; RoHS: Y; PinCount: 40; ComponentLink1Description: LP3971 Datasheet; ComponentLink1URL: http://www.national.com/ds/LP/LP3971.pdf; ComponentLink2Description: LP3971 Web Page; ComponentLink2URL: http://www.national.com/pf/LP/LP3971.html; ComponentLink3Description: SQF40A Package Page; ComponentLink3URL: http://www.national.com/packaging/folders/sqf40a.html
footprint SQF40A (QFN, 40-Leads, Body 5x5 mm, Pitch 0.4mm, NSC Recommended)
pins: 1 PWR_ON (in), 2 nTEST_JIG (in), 3 SPARE (in), 4 EXT_WAKEUP (out), 5 FB1 (in), 6 VIN (power), 7 VOUT LDO1 (out), 8 VOUT LDO2 (out), 9 nRSTI (in), 10 GND1 (power), 11 VREF, 12 VOUT LDO3 (out), 13 VOUT LDO4 (out), 14 VIN LDO4 (power), 15 VIN BUBATT (power), 16 VOUT LDO_RTC (power), 17 nBATT_FLT (out), 18 PGND2 (power), 19 SW2 (power), 20 VIN BUCK2 (power), 21 SDA (io), 22 SCL (in), 23 FB2 (in), 24 nRSTO (out), 25 VOUT LDO5 (out), 26 VIN LDO5 (power), 27 VDDA (power), 28 FB3 (in), 29 GPIO1/NCHG_EN (io), 30 GPIO2 (io), 31 VIN BUCK3 (power), 32 SW3 (power), 33 PGND3 (power), 34 BGND1,2,3 (power), 35 SYNC (in), 36 SYS_EN (in), 37 PWR_EN (in), 38 PGND1 (power), 39 SW1 (power), 40 VIN BUCK1 (power), 41 DAP (power)

## LP3971SQ-W416
designator U?
Power Management Unit for Advanced Application Processor; PartNumber: LP3971SQ-W416; Manufacturer: National Semiconductor; CompType: MiscPower; PackageTopMarking: NS*UZXYTT*71W416; PowerWise: N; Published: 4-Dec-2008; DatasheetVersion: Jul-2008; PackageVersion: revB, Jul-2004; PackageReference: SQF40A; Publisher: Altium Limited; PackageDescription: LLP, Quad, 5 x 5 x 0.8mm Body, 40 Lead, 0.4mm Pitch, 3.6 x 3.6mm Exposed Pad; RoHS: Y; PinCount: 40; DigiKeyPartNumber: LP3971SQ-W416CT-ND; ComponentLink1Description: LP3971 Datasheet; ComponentLink1URL: http://www.national.com/ds/LP/LP3971.pdf; ComponentLink2Description: LP3971 Web Page; ComponentLink2URL: http://www.national.com/pf/LP/LP3971.html; ComponentLink3Description: SQF40A Package Page; ComponentLink3URL: http://www.national.com/packaging/folders/sqf40a.html
footprint SQF40A (QFN, 40-Leads, Body 5x5 mm, Pitch 0.4mm, NSC Recommended)
pins: 1 PWR_ON (in), 2 nTEST_JIG (in), 3 SPARE (in), 4 EXT_WAKEUP (out), 5 FB1 (in), 6 VIN (power), 7 VOUT LDO1 (out), 8 VOUT LDO2 (out), 9 nRSTI (in), 10 GND1 (power), 11 VREF, 12 VOUT LDO3 (out), 13 VOUT LDO4 (out), 14 VIN LDO4 (power), 15 VIN BUBATT (power), 16 VOUT LDO_RTC (power), 17 nBATT_FLT (out), 18 PGND2 (power), 19 SW2 (power), 20 VIN BUCK2 (power), 21 SDA (io), 22 SCL (in), 23 FB2 (in), 24 nRSTO (out), 25 VOUT LDO5 (out), 26 VIN LDO5 (power), 27 VDDA (power), 28 FB3 (in), 29 GPIO1/NCHG_EN (io), 30 GPIO2 (io), 31 VIN BUCK3 (power), 32 SW3 (power), 33 PGND3 (power), 34 BGND1,2,3 (power), 35 SYNC (in), 36 SYS_EN (in), 37 PWR_EN (in), 38 PGND1 (power), 39 SW1 (power), 40 VIN BUCK1 (power), 41 DAP (power)

## LP3972SQ-0514
designator U?
Power Management Unit for Advanced Application Processor; PartNumber: LP3972SQ-0514; Manufacturer: National Semiconductor; CompType: MiscPower; PackageTopMarking: NS*UZXYTT*72-0514; PowerWise: N; Published: 29-May-2009; DatasheetVersion: Feb-2009; PackageVersion: revB, Jul-2004; PackageReference: SQF40A; Publisher: Altium Limited; PackageDescription: LLP, Quad, 5 x 5 x 0.8mm Body, 40 Lead, 0.4mm Pitch, 3.6 x 3.6mm Exposed Pad; RoHS: Y; PinCount: 40; ComponentLink1Description: LP3972 Datasheet; ComponentLink1URL: http://www.national.com/ds/LP/LP3972.pdf; ComponentLink2Description: LP3972 Web Page; ComponentLink2URL: http://www.national.com/pf/LP/LP3972.html; ComponentLink3Description: SQF40A Package Page; ComponentLink3URL: http://www.national.com/packaging/folders/sqf40a.html
footprint SQF40A (QFN, 40-Leads, Body 5x5 mm, Pitch 0.4mm, NSC Recommended)
pins: 1 PWR_ON (in), 2 nTEST_JIG (in), 3 SPARE (in), 4 EXT_WAKEUP (out), 5 FB1 (in), 6 VIN (power), 7 VOUT LDO1 (out), 8 VOUT LDO2 (out), 9 nRSTI (in), 10 GND1 (power), 11 VREF, 12 VOUT LDO3 (out), 13 VOUT LDO4 (out), 14 VIN LDO4 (power), 15 VIN BUBATT (power), 16 VOUT LDO_RTC (power), 17 nBATT_FLT (out), 18 PGND2 (power), 19 SW2 (power), 20 VIN BUCK2 (power), 21 SDA (io), 22 SCL (in), 23 FB2 (in), 24 nRSTO (out), 25 VOUT LDO5 (out), 26 VIN LDO5 (power), 27 VDDA (power), 28 FB3 (in), 29 GPIO1/NCHG_EN (io), 30 GPIO2 (io), 31 VIN BUCK3 (power), 32 SW3 (power), 33 PGND3 (power), 34 BGND1,2,3 (power), 35 SYNC (in), 36 SYS_EN (in), 37 PWR_EN (in), 38 PGND1 (power), 39 SW1 (power), 40 VIN BUCK1 (power), 41 DAP (power)

## LP3972SQ-A413
designator U?
Power Management Unit for Advanced Application Processor; PartNumber: LP3972SQ-A413; Manufacturer: National Semiconductor; CompType: MiscPower; PackageTopMarking: NS*UZXYTT*72-A413; PowerWise: Y; Published: 4-Dec-2008; DatasheetVersion: Feb-2009; PackageVersion: revB, Jul-2004; PackageReference: SQF40A; Publisher: Altium Limited; PackageDescription: LLP, Quad, 5 x 5 x 0.8mm Body, 40 Lead, 0.4mm Pitch, 3.6 x 3.6mm Exposed Pad; RoHS: Y; PinCount: 40; DigiKeyPartNumber: LP3972SQ-A413CT-ND; ComponentLink1Description: LP3972 Datasheet; ComponentLink1URL: http://www.national.com/ds/LP/LP3972.pdf; ComponentLink2Description: LP3972 Web Page; ComponentLink2URL: http://www.national.com/pf/LP/LP3972.html; ComponentLink3Description: SQF40A Package Page; ComponentLink3URL: http://www.national.com/packaging/folders/sqf40a.html
footprint SQF40A (QFN, 40-Leads, Body 5x5 mm, Pitch 0.4mm, NSC Recommended)
pins: 1 PWR_ON (in), 2 nTEST_JIG (in), 3 SPARE (in), 4 EXT_WAKEUP (out), 5 FB1 (in), 6 VIN (power), 7 VOUT LDO1 (out), 8 VOUT LDO2 (out), 9 nRSTI (in), 10 GND1 (power), 11 VREF, 12 VOUT LDO3 (out), 13 VOUT LDO4 (out), 14 VIN LDO4 (power), 15 VIN BUBATT (power), 16 VOUT LDO_RTC (power), 17 nBATT_FLT (out), 18 PGND2 (power), 19 SW2 (power), 20 VIN BUCK2 (power), 21 SDA (io), 22 SCL (in), 23 FB2 (in), 24 nRSTO (out), 25 VOUT LDO5 (out), 26 VIN LDO5 (power), 27 VDDA (power), 28 FB3 (in), 29 GPIO1/NCHG_EN (io), 30 GPIO2 (io), 31 VIN BUCK3 (power), 32 SW3 (power), 33 PGND3 (power), 34 BGND1,2,3 (power), 35 SYNC (in), 36 SYS_EN (in), 37 PWR_EN (in), 38 PGND1 (power), 39 SW1 (power), 40 VIN BUCK1 (power), 41 DAP (power)

## LP3972SQ-A514
designator U?
Power Management Unit for Advanced Application Processor; PartNumber: LP3972SQ-A514; Manufacturer: National Semiconductor; CompType: MiscPower; PackageTopMarking: NS*UZXYTT*72-A514; PowerWise: Y; Published: 4-Dec-2008; DatasheetVersion: Feb-2009; PackageVersion: revB, Jul-2004; PackageReference: SQF40A; Publisher: Altium Limited; PackageDescription: LLP, Quad, 5 x 5 x 0.8mm Body, 40 Lead, 0.4mm Pitch, 3.6 x 3.6mm Exposed Pad; RoHS: O; PinCount: 40; DigiKeyPartNumber: LP3972SQ-A514CT-ND; ComponentLink1Description: LP3972 Datasheet; ComponentLink1URL: http://www.national.com/ds/LP/LP3972.pdf; ComponentLink2Description: LP3972 Web Page; ComponentLink2URL: http://www.national.com/pf/LP/LP3972.html; ComponentLink3Description: SQF40A Package Page; ComponentLink3URL: http://www.national.com/packaging/folders/sqf40a.html
footprint SQF40A (QFN, 40-Leads, Body 5x5 mm, Pitch 0.4mm, NSC Recommended)
pins: 1 PWR_ON (in), 2 nTEST_JIG (in), 3 SPARE (in), 4 EXT_WAKEUP (out), 5 FB1 (in), 6 VIN (power), 7 VOUT LDO1 (out), 8 VOUT LDO2 (out), 9 nRSTI (in), 10 GND1 (power), 11 VREF, 12 VOUT LDO3 (out), 13 VOUT LDO4 (out), 14 VIN LDO4 (power), 15 VIN BUBATT (power), 16 VOUT LDO_RTC (power), 17 nBATT_FLT (out), 18 PGND2 (power), 19 SW2 (power), 20 VIN BUCK2 (power), 21 SDA (io), 22 SCL (in), 23 FB2 (in), 24 nRSTO (out), 25 VOUT LDO5 (out), 26 VIN LDO5 (power), 27 VDDA (power), 28 FB3 (in), 29 GPIO1/NCHG_EN (io), 30 GPIO2 (io), 31 VIN BUCK3 (power), 32 SW3 (power), 33 PGND3 (power), 34 BGND1,2,3 (power), 35 SYNC (in), 36 SYS_EN (in), 37 PWR_EN (in), 38 PGND1 (power), 39 SW1 (power), 40 VIN BUCK1 (power), 41 DAP (power)

## LP3972SQ-E514
designator U?
Power Management Unit for Advanced Application Processor; PartNumber: LP3972SQ-E514; Manufacturer: National Semiconductor; CompType: MiscPower; PackageTopMarking: NS*UZXYTT*72-E514; PowerWise: Y; Published: 4-Dec-2008; DatasheetVersion: Feb-2009; PackageVersion: revB, Jul-2004; PackageReference: SQF40A; Publisher: Altium Limited; PackageDescription: LLP, Quad, 5 x 5 x 0.8mm Body, 40 Lead, 0.4mm Pitch, 3.6 x 3.6mm Exposed Pad; RoHS: Y; PinCount: 40; DigiKeyPartNumber: LP3972SQ-E514CT-ND; ComponentLink1Description: LP3972 Datasheet; ComponentLink1URL: http://www.national.com/ds/LP/LP3972.pdf; ComponentLink2Description: LP3972 Web Page; ComponentLink2URL: http://www.national.com/pf/LP/LP3972.html; ComponentLink3Description: SQF40A Package Page; ComponentLink3URL: http://www.national.com/packaging/folders/sqf40a.html
footprint SQF40A (QFN, 40-Leads, Body 5x5 mm, Pitch 0.4mm, NSC Recommended)
pins: 1 PWR_ON (in), 2 nTEST_JIG (in), 3 SPARE (in), 4 EXT_WAKEUP (out), 5 FB1 (in), 6 VIN (power), 7 VOUT LDO1 (out), 8 VOUT LDO2 (out), 9 nRSTI (in), 10 GND1 (power), 11 VREF, 12 VOUT LDO3 (out), 13 VOUT LDO4 (out), 14 VIN LDO4 (power), 15 VIN BUBATT (power), 16 VOUT LDO_RTC (power), 17 nBATT_FLT (out), 18 PGND2 (power), 19 SW2 (power), 20 VIN BUCK2 (power), 21 SDA (io), 22 SCL (in), 23 FB2 (in), 24 nRSTO (out), 25 VOUT LDO5 (out), 26 VIN LDO5 (power), 27 VDDA (power), 28 FB3 (in), 29 GPIO1/NCHG_EN (io), 30 GPIO2 (io), 31 VIN BUCK3 (power), 32 SW3 (power), 33 PGND3 (power), 34 BGND1,2,3 (power), 35 SYNC (in), 36 SYS_EN (in), 37 PWR_EN (in), 38 PGND1 (power), 39 SW1 (power), 40 VIN BUCK1 (power), 41 DAP (power)

## LP3972SQ-I414
designator U?
Power Management Unit for Advanced Application Processor; PartNumber: LP3972SQ-I414; Manufacturer: National Semiconductor; CompType: MiscPower; PackageTopMarking: NS*UZXYTT*72-I414; PowerWise: Y; Published: 4-Dec-2008; DatasheetVersion: Feb-2009; PackageVersion: revB, Jul-2004; PackageReference: SQF40A; Publisher: Altium Limited; PackageDescription: LLP, Quad, 5 x 5 x 0.8mm Body, 40 Lead, 0.4mm Pitch, 3.6 x 3.6mm Exposed Pad; RoHS: Y; PinCount: 40; ComponentLink1Description: LP3972 Datasheet; ComponentLink1URL: http://www.national.com/ds/LP/LP3972.pdf; ComponentLink2Description: LP3972 Web Page; ComponentLink2URL: http://www.national.com/pf/LP/LP3972.html; ComponentLink3Description: SQF40A Package Page; ComponentLink3URL: http://www.national.com/packaging/folders/sqf40a.html
footprint SQF40A (QFN, 40-Leads, Body 5x5 mm, Pitch 0.4mm, NSC Recommended)
pins: 1 PWR_ON (in), 2 nTEST_JIG (in), 3 SPARE (in), 4 EXT_WAKEUP (out), 5 FB1 (in), 6 VIN (power), 7 VOUT LDO1 (out), 8 VOUT LDO2 (out), 9 nRSTI (in), 10 GND1 (power), 11 VREF, 12 VOUT LDO3 (out), 13 VOUT LDO4 (out), 14 VIN LDO4 (power), 15 VIN BUBATT (power), 16 VOUT LDO_RTC (power), 17 nBATT_FLT (out), 18 PGND2 (power), 19 SW2 (power), 20 VIN BUCK2 (power), 21 SDA (io), 22 SCL (in), 23 FB2 (in), 24 nRSTO (out), 25 VOUT LDO5 (out), 26 VIN LDO5 (power), 27 VDDA (power), 28 FB3 (in), 29 GPIO1/NCHG_EN (io), 30 GPIO2 (io), 31 VIN BUCK3 (power), 32 SW3 (power), 33 PGND3 (power), 34 BGND1,2,3 (power), 35 SYNC (in), 36 SYS_EN (in), 37 PWR_EN (in), 38 PGND1 (power), 39 SW1 (power), 40 VIN BUCK1 (power), 41 DAP (power)

## LP3972SQ-I514
designator U?
Power Management Unit for Advanced Application Processor; PartNumber: LP3972SQ-I514; Manufacturer: National Semiconductor; CompType: MiscPower; PackageTopMarking: NS*UZXYTT*72-I514; PowerWise: Y; Published: 4-Dec-2008; DatasheetVersion: Feb-2009; PackageVersion: revB, Jul-2004; PackageReference: SQF40A; Publisher: Altium Limited; PackageDescription: LLP, Quad, 5 x 5 x 0.8mm Body, 40 Lead, 0.4mm Pitch, 3.6 x 3.6mm Exposed Pad; RoHS: O; PinCount: 40; DigiKeyPartNumber: LP3972SQ-I514EV-ND; ComponentLink1Description: LP3972 Datasheet; ComponentLink1URL: http://www.national.com/ds/LP/LP3972.pdf; ComponentLink2Description: LP3972 Web Page; ComponentLink2URL: http://www.national.com/pf/LP/LP3972.html; ComponentLink3Description: SQF40A Package Page; ComponentLink3URL: http://www.national.com/packaging/folders/sqf40a.html
footprint SQF40A (QFN, 40-Leads, Body 5x5 mm, Pitch 0.4mm, NSC Recommended)
pins: 1 PWR_ON (in), 2 nTEST_JIG (in), 3 SPARE (in), 4 EXT_WAKEUP (out), 5 FB1 (in), 6 VIN (power), 7 VOUT LDO1 (out), 8 VOUT LDO2 (out), 9 nRSTI (in), 10 GND1 (power), 11 VREF, 12 VOUT LDO3 (out), 13 VOUT LDO4 (out), 14 VIN LDO4 (power), 15 VIN BUBATT (power), 16 VOUT LDO_RTC (power), 17 nBATT_FLT (out), 18 PGND2 (power), 19 SW2 (power), 20 VIN BUCK2 (power), 21 SDA (io), 22 SCL (in), 23 FB2 (in), 24 nRSTO (out), 25 VOUT LDO5 (out), 26 VIN LDO5 (power), 27 VDDA (power), 28 FB3 (in), 29 GPIO1/NCHG_EN (io), 30 GPIO2 (io), 31 VIN BUCK3 (power), 32 SW3 (power), 33 PGND3 (power), 34 BGND1,2,3 (power), 35 SYNC (in), 36 SYS_EN (in), 37 PWR_EN (in), 38 PGND1 (power), 39 SW1 (power), 40 VIN BUCK1 (power), 41 DAP (power)

## LP5550SQ
designator U?
PowerWise Technology Compliant Energy Management Unit; PartNumber: LP5550SQ; Manufacturer: National Semiconductor; CompType: MiscPower; PackageTopMarking: NS*UZXYTT*L5550SQ; PowerWise: Y; Published: 4-Dec-2008; DatasheetVersion: Jan-2006; PackageVersion: revA, Oct-2003; PackageReference: SQA16A; Publisher: Altium Limited; PackageDescription: LLP, Plastic, Quad, 4 x 4 x 0.8mm Body, 16 Lead, 0.5mm Pitch, No Pullback; RoHS: Y; PinCount: 16; DigiKeyPartNumber: LP5550SQCT-ND; ComponentLink1Description: LP5550 Datasheet; ComponentLink1URL: http://www.national.com/ds/LP/LP5550.pdf; ComponentLink2Description: LP5550 Web Page; ComponentLink2URL: http://www.national.com/pf/LP/LP5550.html; ComponentLink3Description: SQA16A Package Page; ComponentLink3URL: http://www.national.com/packaging/folders/sqa16a.html
footprint SQA16A (QFN, 16-Leads, Body 4x4mm, Pitch 0.5mm, NSC Recommended)
pins: 1 SCLK (in), 2 SPWI (io), 3 RESETN (in), 4 VO2 (power), 5 VBAT1 (power), 6 VO1 (power), 7 DGND (power), 8 PWROK (out), 9 VBATSW (power), 10 SW (out), 11 SWGND (power), 12 VBAT2 (power), 13 VO3 (power), 14 VFB (in), 15 AGND (power), 16 ENABLE (in), 17 Thermal Pad (power)

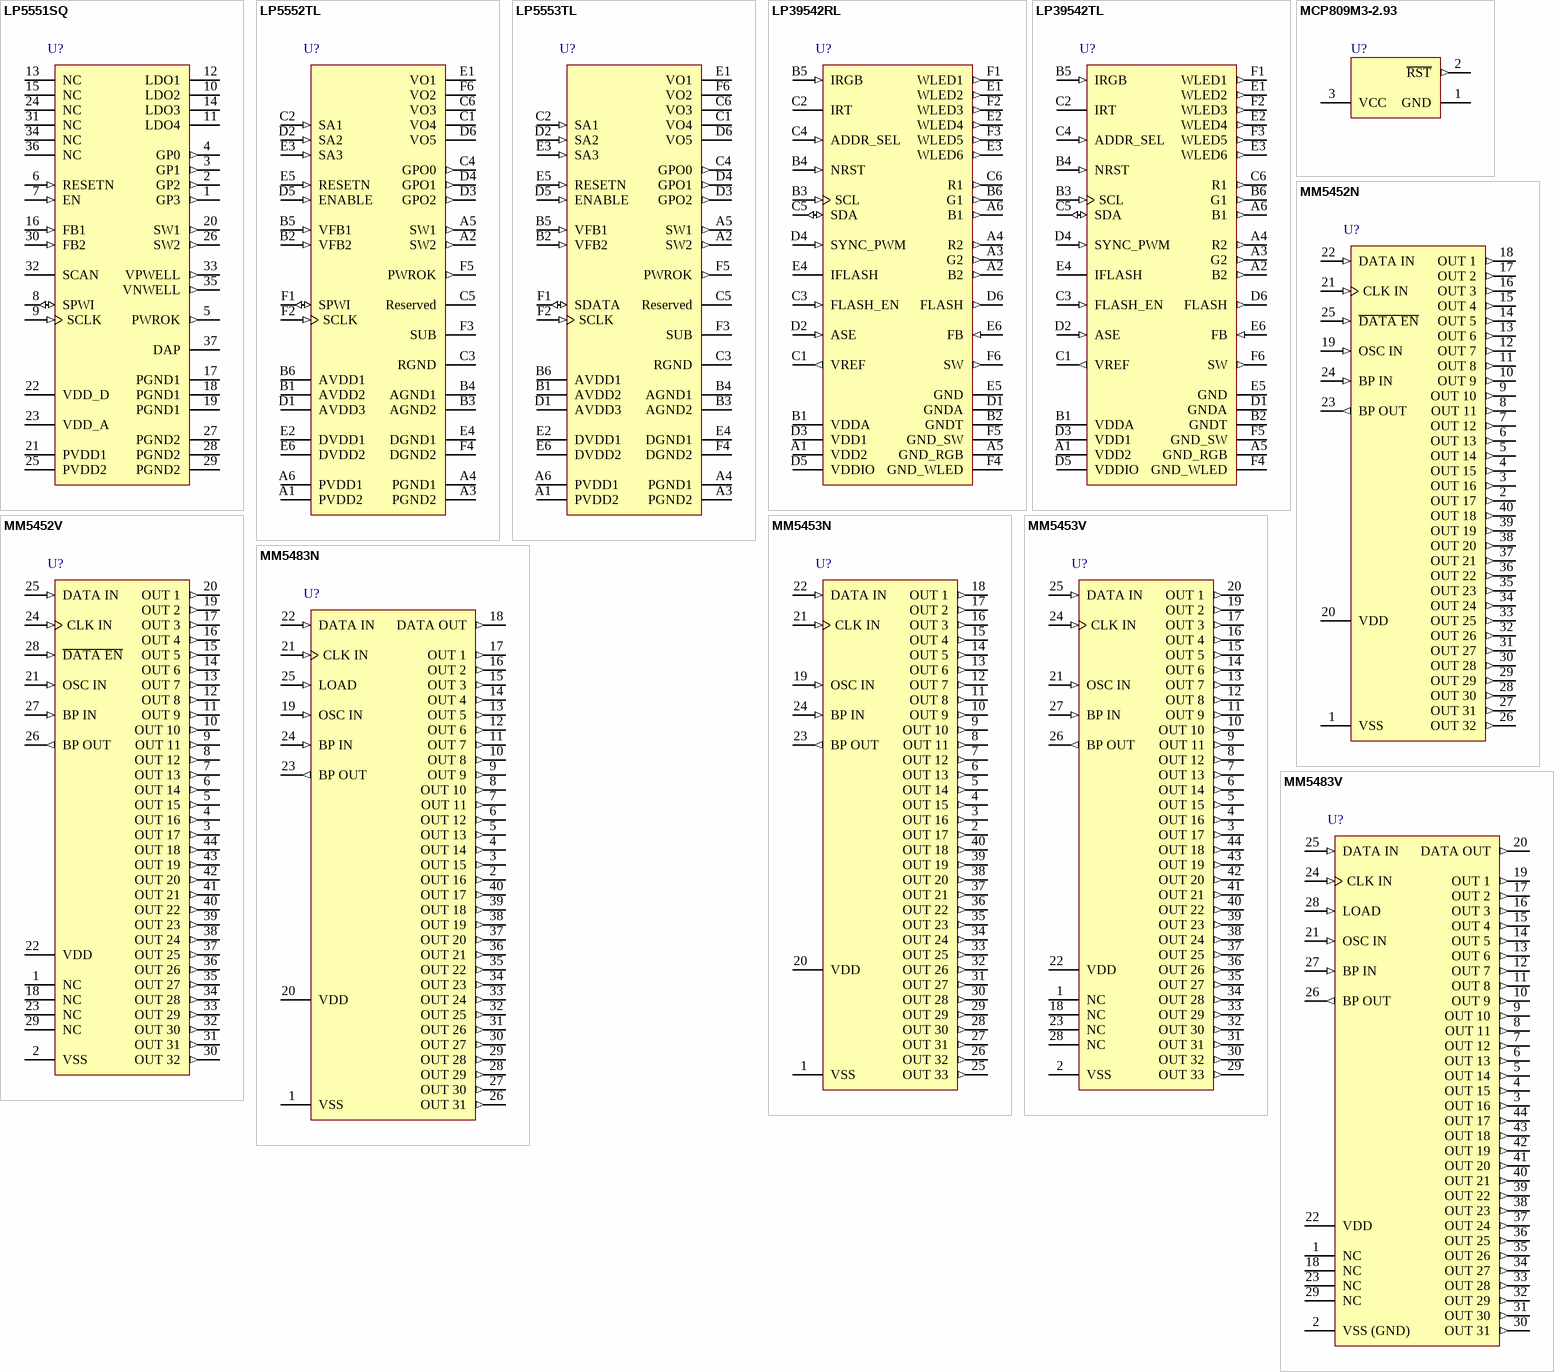
[diagram p24: symbols LP5551SQ to MM5483V]

## LP5551SQ
designator U?
PowerWise Technology Compliant Energy Management Unit; PartNumber: LP5551SQ; Manufacturer: National Semiconductor; CompType: MiscPower; PackageTopMarking: NS*UZXYTT*LP5551SQ; PowerWise: Y; Published: 4-Dec-2008; DatasheetVersion: Dec-2006; PackageVersion: revA, Jun-2003; PackageReference: SQA36A; Publisher: Altium Limited; PackageDescription: LLP, Plastic, Quad, 6 x 6 x 0.8mm Body, 36 Lead, 0.5mm Pitch, No Pullback; RoHS: Y; PinCount: 36; DigiKeyPartNumber: LP5551SQEV-ND; ComponentLink1Description: LP5551 Datasheet; ComponentLink1URL: http://www.national.com/ds/LP/LP5551.pdf; ComponentLink2Description: LP5551 Web Page; ComponentLink2URL: http://www.national.com/pf/LP/LP5551.html; ComponentLink3Description: SQA36A Package Page; ComponentLink3URL: http://www.national.com/packaging/folders/sqa36a.html
footprint SQA36A (QFN, 36-Leads, Body 6x6mm, Pitch 0.5mm, NSC Recommended)
pins: 1 GP3 (out), 2 GP2 (out), 3 GP1 (out), 4 GP0 (out), 5 PWROK (out), 6 RESETN (in), 7 EN (in), 8 SPWI (io), 9 SCLK (in), 10 LDO2 (power), 11 LDO4 (power), 12 LDO1 (power), 13 NC, 14 LDO3 (power), 15 NC, 16 FB1 (in), 17 PGND1 (power), 18 PGND1 (power), 19 PGND1 (power), 20 SW1 (out), 21 PVDD1 (power), 22 VDD_D (power), 23 VDD_A (power), 24 NC, 25 PVDD2 (power), 26 SW2 (out), 27 PGND2 (power), 28 PGND2 (power), 29 PGND2 (power), 30 FB2 (in), 31 NC, 32 SCAN, 33 VPWELL (out), 34 NC, 35 VNWELL (out), 36 NC, 37 DAP (power)

## LP5552TL
designator U?
PWI 2.0 and PowerWise Technology Compliant Energy Management Unit; PartNumber: LP5552TL; Manufacturer: National Semiconductor; CompType: MiscPower; PackageTopMarking: XYTT*I SLKB; PowerWise: Y; Published: 4-Dec-2008; DatasheetVersion: May-2008; PackageVersion: revC, Dec-2003; PackageReference: TLA36TTA; Publisher: Altium Limited; PackageDescription: Thin Micro SMD, 36 Bump (Large), 0.5mm Pitch; RoHS: Y; PinCount: 36; DigiKeyPartNumber: LP5552TLEV-ND; Code_JEDEC: MO-211-DK; ComponentLink1Description: LP5552 Datasheet; ComponentLink1URL: http://www.national.com/ds/LP/LP5552.pdf; ComponentLink2Description: LP5552 Web Page; ComponentLink2URL: http://www.national.com/pf/LP/LP5552.html; ComponentLink3Description: TLA36TTA Package Page; ComponentLink3URL: http://www.national.com/packaging/folders/tla36tta.html
footprint TLA36TTA (Micro SMD, 36-Leads, Body 3.46x3.46mm, Pitch 0.5mm, NSC Recommended)
pins: A1 PVDD2 (power), A2 SW2 (out), A3 PGND2 (power), A4 PGND1 (power), A5 SW1 (out), A6 PVDD1 (power), B1 AVDD2 (power), B2 VFB2 (in), B3 AGND2 (power), B4 AGND1 (power), B5 VFB1 (in), B6 AVDD1 (power), C1 VO4 (power), C2 SA1 (in), C3 RGND (power), C4 GPO0 (out), C5 Reserved (power), C6 VO3 (power), D1 AVDD3 (power), D2 SA2 (in), D3 GPO2 (out), D4 GPO1 (out), D5 ENABLE (in), D6 VO5 (power), E1 VO1 (power), E2 DVDD1 (power), E3 SA3 (in), E4 DGND1 (power), E5 RESETN (in), E6 DVDD2 (power), F1 SPWI (io), F2 SCLK (in), F3 SUB (power), F4 DGND2 (power), F5 PWROK (out), F6 VO2 (power)